# Altium schematic symbol library RcMPPTLib.SchLib: 62 symbols
Pins are listed as number, name and electrical type; pins without a type are passive.

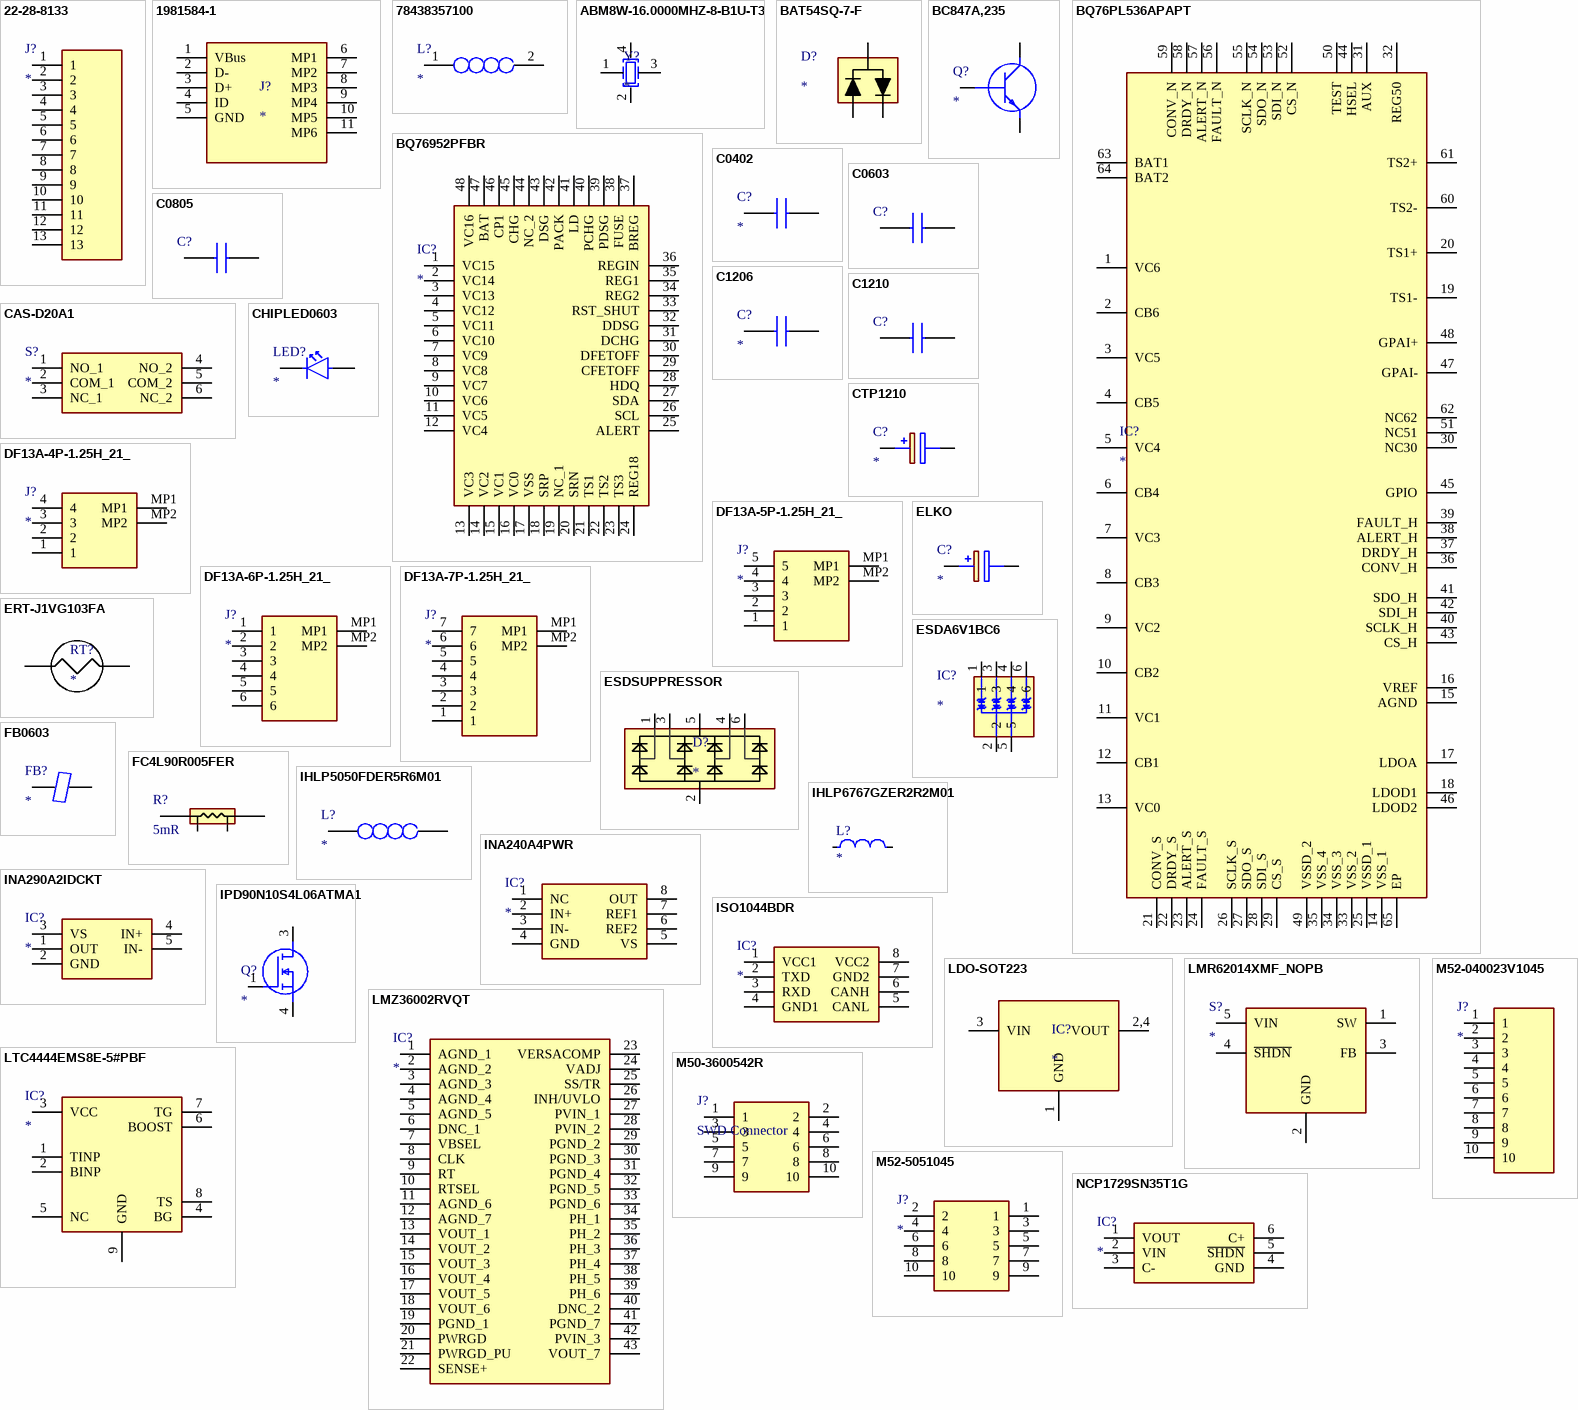
[diagram p0: symbols 22-28-8133 to NCP1729SN35T1G]

## 22-28-8133
designator J?
Connector; Manufacturer_Name: Molex; Datasheet Link: https://www.molex.com/pdm_docs/sd/022288133_sd.pdf; Height: 2.49mm; Manufacturer_Part_Number: 22-28-8133; Mouser Part Number: 538-22-28-8133; Mouser Price/Stock: https://www.mouser.co.uk/ProductDetail/Molex/22-28-8133?qs=l%252BWx29wYPrwPQBTZUVDqKw%3D%3D
footprint HDRRA13W66P0X254_1X13_3302X229X249P
pins: 1, 2, 3, 4, 5, 6, 7, 8, 9, 10, 11, 12, 13

## 1981584-1
designator J?
Connector; Manufacturer_Name: TE Connectivity; Manufacturer_Part_Number: 1981584-1; Datasheet Link: http://www.te.com/commerce/DocumentDelivery/DDEController?Action=showdoc&DocId=Customer+Drawing%7F1981584%7FD2%7Fpdf%7FEnglish%7FENG_CD_1981584_D2.pdf%7F1981584-1; Height: 3mm; Arrow Part Number: 1981584-1; Arrow Price/Stock: https://www.arrow.com/en/products/1981584-1/te-connectivity; Mouser Part Number: 571-1981584-1; Mouser Price/Stock: https://www.mouser.co.uk/ProductDetail/TE-Connectivity/1981584-1?qs=ozkTL%2FUej0TLYxjQLPnd2Q%3D%3D
footprint 19815841
pins: 1 VBus, 2 D-, 3 D+, 4 ID, 5 GND, 6 MP1, 7 MP2, 8 MP3, 9 MP4, 10 MP5, 11 MP6

## 78438357100
designator L?
Inductor; Manufacturer_Name: Wurth Elektronik; Manufacturer_Part_Number: 78438357100; Datasheet Link: https://katalog.we-online.de/pbs/datasheet/78438357100.pdf; Height: 3.1mm; Mouser Part Number: 710-78438357100; Mouser Price/Stock: https://www.mouser.co.uk/ProductDetail/Wurth-Elektronik/78438357100?qs=f9yNj16SXrI9saR5LXmRyQ%3D%3D
footprint INDPM4141X310N
pins: 1, 2

## ABM8W-16.0000MHZ-8-B1U-T3
designator Y?
Crystal or Oscillator; Manufacturer_Name: ABRACON; Manufacturer_Part_Number: ABM8W-16.0000MHZ-8-B1U-T3; Datasheet Link: https://abracon.com/Resonators/ABM8W.pdf; Height: 0.75mm; Mouser Part Number: 815-8W16-8B1UT; Mouser Price/Stock: https://www.mouser.co.uk/ProductDetail/ABRACON/ABM8W-160000MHZ-8-B1U-T3?qs=5aG0NVq1C4zuwTHNFUIcqw%3D%3D; Arrow Part Number: ABM8W-16.0000MHZ-8-B1U-T3; Arrow Price/Stock: https://www.arrow.com/en/products/abm8w-16.0000mhz-8-b1u-t3/abracon
footprint ABM8W160000MHZ8B1UT3
pins: 1 OSC1, 2 OSC2, 3, 4

## BAT54SQ-7-F
designator D?
Schottky Diode; Manufacturer_Name: Diodes Inc.; Manufacturer_Part_Number: BAT54SQ-7-F; Datasheet Link: https://www.arrow.com/en/products/bat54sq-7-f/diodes-incorporated; Height: 1.1mm; Mouser Part Number: 621-BAT54SQ-7-F; Mouser Price/Stock: https://www.mouser.co.uk/ProductDetail/Diodes-Incorporated/BAT54SQ-7-F/?qs=vdQOMtKMWaAKaYcjx11stw%3D%3D; Arrow Part Number: BAT54SQ-7-F; Arrow Price/Stock: https://www.arrow.com/en/products/bat54sq-7-f/diodes-incorporated
footprint SOT96P240X110-3N
pins: 1 A, 2 K, 3 A/K

## BC847A,235
designator Q?
Transistor BJT NPN; Manufacturer_Name: Nexperia; Manufacturer_Part_Number: BC847A,235; Datasheet Link: http://assets.nexperia.com/documents/data-sheet/BC847_SER.pdf; Height: 1.1mm; Mouser Part Number: 771-BC847A235; Mouser Price/Stock: https://www.mouser.co.uk/ProductDetail/Nexperia/BC847A235?qs=me8TqzrmIYWeD%252BqPzufrRA%3D%3D; Arrow Part Number: BC847A,235; Arrow Price/Stock: https://www.arrow.com/en/products/bc847a235/nexperia
footprint SOT95P230X110-3N
pins: 1 B, 2 E, 3 C

## BQ76PL536APAPT
designator IC?
Integrated Circuit; Manufacturer_Name: Texas Instruments; Manufacturer_Part_Number: BQ76PL536APAPT; Datasheet Link: http://www.ti.com/lit/gpn/bq76pl536a; Height: 1.2mm; Mouser Part Number: 595-BQ76PL536APAPT; Mouser Price/Stock: https://www.mouser.co.uk/ProductDetail/Texas-Instruments/BQ76PL536APAPT?qs=UlfnwZ2x8nT1EXA%252BD%252BEfIQ%3D%3D; Arrow Part Number: BQ76PL536APAPT; Arrow Price/Stock: https://www.arrow.com/en/products/bq76pl536apapt/texas-instruments?region=nac
footprint QFP50P1200X1200X120-65N
pins: 1 VC6, 2 CB6, 3 VC5, 4 CB5, 5 VC4, 6 CB4, 7 VC3, 8 CB3, 9 VC2, 10 CB2, 11 VC1, 12 CB1, 13 VC0, 14 VSS_1, 15 AGND, 16 VREF, 17 LDOA, 18 LDOD1, 19 TS1-, 20 TS1+, 21 CONV_S, 22 DRDY_S, 23 ALERT_S, 24 FAULT_S, 25 VSSD_1, 26 SCLK_S, 27 SDO_S, 28 SDI_S, 29 CS_S, 30 NC30, 31 AUX, 32 REG50, 33 VSS_2, 34 VSS_3, 35 VSS_4, 36 CONV_H, 37 DRDY_H, 38 ALERT_H, 39 FAULT_H, 40 SCLK_H, 41 SDO_H, 42 SDI_H, 43 CS_H, 44 HSEL, 45 GPIO, 46 LDOD2, 47 GPAI-, 48 GPAI+, 49 VSSD_2, 50 TEST, 51 NC51, 52 CS_N, 53 SDI_N, 54 SDO_N, 55 SCLK_N, 56 FAULT_N, 57 ALERT_N, 58 DRDY_N, 59 CONV_N, 60 TS2-, 61 TS2+, 62 NC62, 63 BAT1, 64 BAT2, 65 EP

## BQ76952PFBR
designator IC?
Integrated Circuit; Manufacturer_Name: Texas Instruments; Manufacturer_Part_Number: BQ76952PFBR; Datasheet Link: https://www.ti.com/lit/ds/symlink/bq76952.pdf?ts=1602524050348&ref_url=https%253A%252F%252Fwww.ti.com%252Fproduct%252FBQ76952%253FkeyMatch%253DBQ76952PFBR%2526tisearch%253DSearch-EN-everything%2526usecase%253DOPN; Height: 1.2mm
footprint QFP50P900X900X120-48N
pins: 1 VC15, 2 VC14, 3 VC13, 4 VC12, 5 VC11, 6 VC10, 7 VC9, 8 VC8, 9 VC7, 10 VC6, 11 VC5, 12 VC4, 13 VC3, 14 VC2, 15 VC1, 16 VC0, 17 VSS, 18 SRP, 19 NC_1, 20 SRN, 21 TS1, 22 TS2, 23 TS3, 24 REG18, 25 ALERT, 26 SCL, 27 SDA, 28 HDQ, 29 CFETOFF, 30 DFETOFF, 31 DCHG, 32 DDSG, 33 RST_SHUT, 34 REG2, 35 REG1, 36 REGIN, 37 BREG, 38 FUSE, 39 PDSG, 40 PCHG, 41 LD, 42 PACK, 43 DSG, 44 NC_2, 45 CHG, 46 CP1, 47 BAT, 48 VC16

## C0402
designator C?
Capacitor
footprint CAPC1005X55N
pins: 1, 2

## C0603
designator C?  (value not drawn)
Capacitor; Height: 0.97
footprint CAPC1608X97N
pins: 1, 2

## C0805
designator C?  (value not drawn)
Capacitor; Height: 0.97
footprint CAPC2012X75N
pins: 1, 2

## C1206
designator C?
Capacitor; Height: 1.8mm
footprint CAPC3216X180N (Footprint not found)
pins: 1, 2

## C1210
designator C?  (value not drawn)
Capacitor; Height: 0.97mm
footprint CAPC3225X270N
pins: 1, 2

## CAS-D20A1
designator S?
Switch; Manufacturer_Name: Copal Electronics; Manufacturer_Part_Number: CAS-D20A1; Datasheet Link: https://www.nidec-copal-electronics.com/e/catalog/switch/cas.pdf; Height: 2.5mm
footprint CASD20A1
pins: 1 NO_1, 2 COM_1, 3 NC_1, 4 NO_2, 5 COM_2, 6 NC_2

## CHIPLED0603
designator LED?
LED; Mouser Price/Stock: https://www.mouser.at/c/optoelectronics/led-lighting/led-emitters/standard-leds-smd/?series=CHIPLED%200603&instock=y
footprint CHIPLED_0603
pins: 1 K, 2 A

## CTP1210
designator C?
Capacitor Polarised
footprint POSCAP_B1_B1S_B1G_B15G_B2_B2S
pins: 1 +, 2 -

## DF13A-4P-1.25H_21_
designator J?
Connector; Manufacturer_Name: Hirose; Manufacturer_Part_Number: DF13A-4P-1.25H(21); Datasheet Link: https://componentsearchengine.com/Datasheets/1/DF13A-4P-1.25H(21).pdf; Height: 3.6mm; Mouser Part Number: 798-DF13A4P125H21; Mouser Price/Stock: https://www.mouser.co.uk/ProductDetail/Hirose-Connector/DF13A-4P-125H21?qs=XQjbzJWzFPXWzMShI70F0w%3D%3D
footprint DF13A4P125H21
pins: 1, 2, 3, 4, MP1, MP2

## DF13A-5P-1.25H_21_
designator J?
Connector; Manufacturer_Name: Hirose; Manufacturer_Part_Number: DF13A-5P-1.25H(21); Datasheet Link: https://componentsearchengine.com/Datasheets/1/DF13A-5P-1.25H(21).pdf; Height: 3.75mm; Mouser Part Number: 798-DF13A5P125H21; Mouser Price/Stock: https://www.mouser.co.uk/ProductDetail/Hirose-Connector/DF13A-5P-125H21?qs=XQjbzJWzFPWvJsE2o%252B4Q8Q%3D%3D
footprint DF13A5P125H21
pins: 1, 2, 3, 4, 5, MP1, MP2

## DF13A-6P-1.25H_21_
designator J?
Connector; Manufacturer_Name: Hirose; Manufacturer_Part_Number: DF13A-6P-1.25H(21); Datasheet Link: https://www.hirose.com/product/download/?distributor=digikey&type=2d&lang=en&num=DF13A-6P-1.25H(21); Height: 3.75mm; Mouser Part Number: 798-DF13A6P125H21; Mouser Price/Stock: https://www.mouser.co.uk/ProductDetail/Hirose-Connector/DF13A-6P-125H21?qs=XQjbzJWzFPXnreVi%252BPl0Lg%3D%3D; Arrow Part Number: DF13A-6P-1.25H(21); Arrow Price/Stock: https://www.arrow.com/en/products/df13a-6p-1.25h-21/hirose-electric
footprint DF13A6P125H21
pins: 1, 2, 3, 4, 5, 6, MP1, MP2

## DF13A-7P-1.25H_21_
designator J?
Connector; Manufacturer_Name: Hirose; Manufacturer_Part_Number: DF13A-7P-1.25H(21); Datasheet Link: https://www.hirose.com/product/download/?distributor=digikey&type=specSheet&lang=en&num=DF13A-7P-1.25H(21); Height: 3.75mm; Mouser Part Number: 798-DF13A7P125H21; Mouser Price/Stock: https://www.mouser.co.uk/ProductDetail/Hirose-Connector/DF13A-7P-125H21?qs=XQjbzJWzFPUwUyBUPiS%2FgA%3D%3D
footprint DF13A7P125H21
pins: 1, 2, 3, 4, 5, 6, 7, MP1, MP2

## ELKO
designator C?
Capacitor Polarised
footprint CAPAE1710X1750N
footprint CAPAE1030X1050N
pins: 1 +, 2 -

## ERT-J1VG103FA
designator RT?
Thermistor; Manufacturer_Name: Panasonic; Manufacturer_Part_Number: ERT-J1VG103FA; Datasheet Link: https://componentsearchengine.com/Datasheets/1/ERT-J1VG103FA.pdf; Height: 0.9mm; Mouser Part Number: 667-ERT-J1VG103FA; Mouser Price/Stock: https://www.mouser.co.uk/ProductDetail/Panasonic/ERT-J1VG103FA?qs=Tap6ps20mlMpYFuAQ7bHkg%3D%3D; Arrow Part Number: ERT-J1VG103FA; Arrow Price/Stock: https://www.arrow.com/en/products/ert-j1vg103fa/panasonic
footprint THRMC1608X90N
pins: 1, 2

## ESDA6V1BC6
designator IC?
Integrated Circuit; Manufacturer_Name: STMicroelectronics; Manufacturer_Part_Number: ESDA6V1BC6; Datasheet Link: https://datasheet.datasheetarchive.com/originals/distributors/Datasheets-31/DSA-600768.pdf; Height: 1.45mm; Mouser Part Number: 511-ESDA6V1BC6; Mouser Price/Stock: https://www.mouser.co.uk/ProductDetail/STMicroelectronics/ESDA6V1BC6?qs=9PdvrqCL7oAFp2zmpu55Tw%3D%3D; Arrow Part Number: ESDA6V1BC6; Arrow Price/Stock: https://www.arrow.com/en/products/esda6v1bc6/stmicroelectronics?region=nac
footprint SOT95P280X145-6N
pins: 1, 2, 3, 4, 5, 6

## ESDSUPPRESSOR
designator D?
TVS Diode Array; Height: 0.6mm
footprint SOT23-6 (Footprint not found)
pins: 1 CH1, 2 GND, 3 CH2, 4 CH3, 5 VDD, 6 CH4

## FB0603
designator FB?
Ferrite Bead; Height: 0.75mm
footprint FB0603
pins: 1, 2

## FC4L90R005FER
designator R?, comment 5mR
Shunt; Manufacturer_Name: Ohmite; Manufacturer_Part_Number: FC4L90R005FER; Datasheet Link: https://componentsearchengine.com/Datasheets/2/FC4L90R005FER.pdf; Height: 0.8mm; Mouser Part Number: 588-FC4L90R005FER; Mouser Price/Stock: https://www.mouser.co.uk/ProductDetail/Ohmite/FC4L90R005FER?qs=lc2O%252BfHJPVbbUOwenJZbzA%3D%3D
footprint FC4L90R005FER
pins: 1, 2, 3, 4

## IHLP5050FDER5R6M01
designator L?
Inductor; Manufacturer_Name: Vishay; Manufacturer_Part_Number: IHLP5050FDER5R6M01; Datasheet Link: https://datasheet.datasheetarchive.com/originals/dk/DKDS-37/730336.pdf; Height: 6.5mm; Mouser Part Number: 70-IHLP5050FDER5R6; Mouser Price/Stock: https://www.mouser.co.uk/ProductDetail/Vishay-Dale/IHLP5050FDER5R6M01?qs=DQ1bOpn7xPDvqDl65iF1FA%3D%3D; Arrow Part Number: IHLP5050FDER5R6M01; Arrow Price/Stock: https://www.arrow.com/en/products/ihlp5050fder5r6m01/vishay
footprint INDPM132129X650N
pins: 1, 2

## IHLP6767GZER2R2M01
designator L?
Commercial Inductors, High Saturation Series 2.2uH 35A 2.53mΩ 20%; Manufacturer: Vishay Dale; Manufacturer Part Number: IHLP6767GZER2R2M01; Max DC Current: 62A; Shielding: Shielded; Self Resonant Frequency: 2MHz; DC Resistance (DCR): 2.53mR; Core Material: Metal; Test Frequency: 100kHz; Tolerance: 20%; Termination: SMD/SMT; RMS Current (Irms): 35A; Depth: 17.15mm; Package Quantity: 200; Mount: Surface Mount; Case/Package: 6767; Saturation Current: 62A; Radiation Hardening: No; Height - Seated (Max): 0.276inch; Lead Free: Lead Free; Max Operating Temperature: 125°C; Inductance Tolerance: 20%; Packaging: Tape and Reel; Number of Pins: 6767; Current Rating: 35A; Military Standard: Not; Min Operating Temperature: -55°C; Inductance: 2.2uH; Width: 0.675inch; Height: 7mm; Length: 17.15mm
footprint FP-IHLP-6767GZ-FP_3_825x1-MFG
pins: 1, 2

## INA240A4PWR
designator IC?
Integrated Circuit; Manufacturer_Name: Texas Instruments; Manufacturer_Part_Number: INA240A4PWR; Datasheet Link: http://www.ti.com/lit/ds/symlink/ina240.pdf; Height: 1.2mm; Mouser Part Number: 595-INA240A4PWR; Mouser Price/Stock: https://www.mouser.co.uk/ProductDetail/Texas-Instruments/INA240A4PWR?qs=aVyJF2WnouQ31PAZ9p0r8w%3D%3D; Arrow Part Number: INA240A4PWR; Arrow Price/Stock: https://www.arrow.com/en/products/ina240a4pwr/texas-instruments?region=nac
footprint SOP65P640X120-8N
pins: 1 NC, 2 IN+, 3 IN-, 4 GND (power), 5 VS (power), 6 REF2, 7 REF1, 8 OUT

## INA290A2IDCKT
designator IC?
Integrated Circuit; Manufacturer_Name: Texas Instruments; Manufacturer_Part_Number: INA290A2IDCKT; Datasheet Link: https://www.ti.com/lit/ds/symlink/ina290.pdf?ts=1605766072094&ref_url=https%253A%252F%252Fwww.ti.com%252Fstore%252Fti%252Fen%252Fp%252Fproduct%252F%253Fp%253DINA290A2IDCKT; Height: 1.1mm; Mouser Part Number: 595-INA290A2IDCKT; Mouser Price/Stock: https://www.mouser.co.uk/ProductDetail/Texas-Instruments/INA290A2IDCKT/?qs=sPbYRqrBIVkkx%2FoqcXF%2FVw%3D%3D
footprint SOT65P210X110-5N
pins: 1 OUT, 2 GND, 3 VS, 4 IN+, 5 IN-

## IPD90N10S4L06ATMA1
designator Q?
MOSFET (N-Channel); Manufacturer_Name: Infineon; Manufacturer_Part_Number: IPD90N10S4L06ATMA1; Datasheet Link: https://www.infineon.com/dgdl/Infineon-IPD90N10S4L_06-DS-v01_00-en.pdf?fileId=db3a3043372d5cc80137500063630512; Height: 2mm; Arrow Part Number: IPD90N10S4L06ATMA1; Arrow Price/Stock: https://www.arrow.com/en/products/ipd90n10s4l06atma1/infineon-technologies-ag; Mouser Part Number: 726-IPD90N10S4L06ATM; Mouser Price/Stock: https://www.mouser.co.uk/ProductDetail/Infineon-Technologies/IPD90N10S4L06ATMA1?qs=LxJ0xX%2FWJR62lwU%2FrihEDA%3D%3D
footprint IPD90N10S4L06ATMA1
pins: 1 G, 3 D, 4 S

## ISO1044BDR
designator IC?
Integrated Circuit; Manufacturer_Name: Texas Instruments; Manufacturer_Part_Number: ISO1044BDR; Datasheet Link: http://www.ti.com/lit/gpn/iso1044?HQS=ti-null-null-sf-df-pf-sep-wwe&DCM=yes; Height: 1.75mm; Mouser Part Number: 595-ISO1044BDR; Mouser Price/Stock: https://www.mouser.co.uk/ProductDetail/Texas-Instruments/ISO1044BDR/?qs=DuoOggApuK9UGD9QQWYeTA%3D%3D
footprint SOIC127P600X175-8N
pins: 1 VCC1, 2 TXD, 3 RXD, 4 GND1, 5 CANL, 6 CANH, 7 GND2, 8 VCC2

## LDO-SOT223
designator IC?
LDO
footprint SOT230P700X180-4N
pins: 1 GND, 2,4 VOUT, 3 VIN

## LMR62014XMF_NOPB
designator S?
Switch; Manufacturer_Name: Texas Instruments; Manufacturer_Part_Number: LMR62014XMF/NOPB; Datasheet Link: http://www.ti.com/lit/gpn/lmr62014; Height: 1.45mm; Mouser Part Number: 926-LMR62014XMF/NOPB; Mouser Price/Stock: https://www.mouser.co.uk/ProductDetail/Texas-Instruments/LMR62014XMF-NOPB?qs=cN01o9PeIQtA177Vn0GXdQ%3D%3D; Arrow Part Number: LMR62014XMF/NOPB; Arrow Price/Stock: https://www.arrow.com/en/products/lmr62014xmfnopb/texas-instruments
footprint SOT95P280X145-5N
pins: 1 SW, 2 GND, 3 FB, 4 ~{SHDN}, 5 VIN

## LMZ36002RVQT
designator IC?
Integrated Circuit; Manufacturer_Name: Texas Instruments; Manufacturer_Part_Number: LMZ36002RVQT; Datasheet Link: http://www.ti.com/lit/gpn/lmz36002; Height: 2.13mm; Mouser Part Number: 595-LMZ36002RVQT; Mouser Price/Stock: https://www.mouser.co.uk/ProductDetail/Texas-Instruments/LMZ36002RVQT?qs=kFLL9AfgRSBjXTxBMSjGOw%3D%3D; Arrow Part Number: LMZ36002RVQT; Arrow Price/Stock: https://www.arrow.com/en/products/lmz36002rvqt/texas-instruments
footprint LMZ36002RVQR
pins: 1 AGND_1, 2 AGND_2, 3 AGND_3, 4 AGND_4, 5 AGND_5, 6 DNC_1, 7 VBSEL, 8 CLK, 9 RT, 10 RTSEL, 11 AGND_6, 12 AGND_7, 13 VOUT_1, 14 VOUT_2, 15 VOUT_3, 16 VOUT_4, 17 VOUT_5, 18 VOUT_6, 19 PGND_1, 20 PWRGD, 21 PWRGD_PU, 22 SENSE+, 23 VERSACOMP, 24 VADJ, 25 SS/TR, 26 INH/UVLO, 27 PVIN_1, 28 PVIN_2, 29 PGND_2, 30 PGND_3, 31 PGND_4, 32 PGND_5, 33 PGND_6, 34 PH_1, 35 PH_2, 36 PH_3, 37 PH_4, 38 PH_5, 39 PH_6, 40 DNC_2, 41 PGND_7, 42 PVIN_3, 43 VOUT_7

## LTC4444EMS8E-5#PBF
designator IC?
Integrated Circuit; Manufacturer_Name: Linear Technology; Manufacturer_Part_Number: LTC4444EMS8E-5#PBF; Datasheet Link: http://www.linear.com/docs/26366; Height: 1.1mm; Arrow Part Number: LTC4444EMS8E-5#PBF; Arrow Price/Stock: https://www.arrow.com/en/products/ltc4444ems8e-5pbf/linear-technology; Mouser Part Number: 584-C4444EMS8E-5PBF; Mouser Price/Stock: https://www.mouser.com/Search/Refine.aspx?Keyword=584-C4444EMS8E-5PBF
footprint SOP65P490X110-9N
pins: 1 TINP, 2 BINP, 3 VCC, 4 BG, 5 NC, 6 BOOST, 7 TG, 8 TS, 9 GND

## M50-3600542R
designator J?, comment SWD Connector
Connector; Manufacturer_Name: Harwin; Manufacturer_Part_Number: M50-3600542R; Datasheet Link: https://cdn.harwin.com/pdfs/M50-360R.pdf; Mouser Part Number: 855-M50-3600542R; Mouser Price/Stock: https://www.mouser.co.uk/ProductDetail/Harwin/M50-3600542R?qs=DVxm2sPGGrrPu%2FxuhpV3yw%3D%3D
footprint HUSSP10W40P127_2X5_635X340X420P
pins: 1, 2, 3, 4, 5, 6, 7, 8, 9, 10

## M52-040023V1045
designator J?
Connector; Manufacturer_Name: Harwin; Manufacturer_Part_Number: M52-040023V1045; Datasheet Link: https://componentsearchengine.com/Datasheets/2/M52-040023V1045.pdf; Height: 2.5mm; Mouser Part Number: 855-M52-040023V1045; Mouser Price/Stock: https://www.mouser.co.uk/ProductDetail/Harwin/M52-040023V1045?qs=wuXwK9wHm9uI6z1%2FRhsKmg%3D%3D
footprint HDRV10W60P0X127_1X10_1270X250X250P
pins: 1, 2, 3, 4, 5, 6, 7, 8, 9, 10

## M52-5051045
designator J?
Connector; Manufacturer_Name: Harwin; Manufacturer_Part_Number: M52-5051045; Datasheet Link: https://cdn.harwin.com/pdfs/M52-505.pdf; Height: 5.7mm; Mouser Part Number: 855-M52-5051045; Mouser Price/Stock: https://www.mouser.co.uk/ProductDetail/Harwin/M52-5051045?qs=Jph8NoUxIfVdgQJihAwiug%3D%3D
footprint M525051045
pins: 1, 2, 3, 4, 5, 6, 7, 8, 9, 10

## NCP1729SN35T1G
designator IC?
Integrated Circuit; Manufacturer_Name: ON Semiconductor; Manufacturer_Part_Number: NCP1729SN35T1G; Datasheet Link: http://www.onsemi.com/pub/Collateral/NCP1729-D.PDF; Height: 1.1mm; Arrow Part Number: NCP1729SN35T1G; Arrow Price/Stock: https://www.arrow.com/en/products/ncp1729sn35t1g/on-semiconductor; Mouser Part Number: 863-NCP1729SN35T1G; Mouser Price/Stock: https://www.mouser.co.uk/ProductDetail/ON-Semiconductor/NCP1729SN35T1G?qs=%2FugrpAKHX8pjfXPiRUErOw%3D%3D
footprint SOT105P275X110-6N
pins: 1 VOUT, 2 VIN, 3 C-, 4 GND, 5 ~{SHDN}, 6 C+

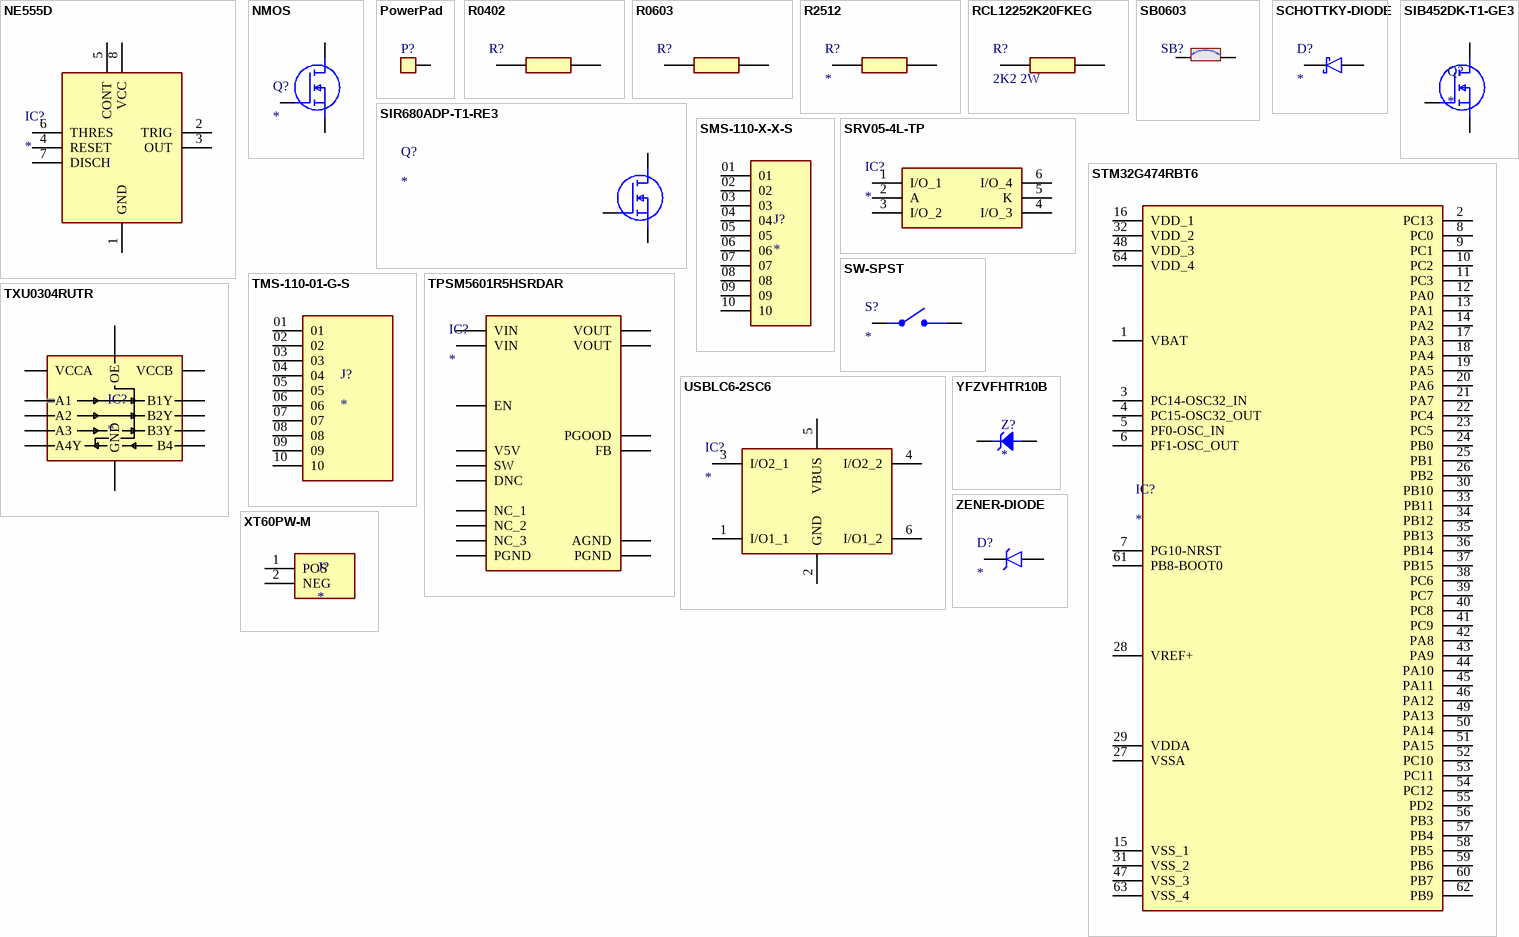
[diagram p1: symbols NE555D to ZENER-DIODE]

## NE555D
designator IC?
Integrated Circuit; Manufacturer_Name: Texas Instruments; Manufacturer_Part_Number: NE555D; Datasheet Link: http://www.ti.com/lit/ds/symlink/ne555.pdf; Height: 1.75mm; Mouser Part Number: 595-NE555D; Mouser Price/Stock: https://www.mouser.co.uk/ProductDetail/Texas-Instruments/NE555D/?qs=gb35HGp1gQIV8t3Z88o0WA%3D%3D; Arrow Part Number: NE555D; Arrow Price/Stock: https://www.arrow.com/en/products/ne555d/texas-instruments
footprint SOIC127P600X175-8N
pins: 1 GND, 2 TRIG, 3 OUT, 4 RESET, 5 CONT, 6 THRES, 7 DISCH, 8 VCC

## NMOS
designator Q?
MOSFET (N-Channel)
footprint SI2305TP
footprint SOT96P240X110-3N
pins: 1 G, 2 S, 3 D

## PowerPad
designator P?  (value not drawn)
footprint POWER_PAD
pins: 1

## R0402
designator R?  (value not drawn)
Resistor; Height: 0.4mm
footprint RESC1005X40N
pins: 1, 2

## R0603
designator R?  (value not drawn)
Resistor; Height: 0.55mm
footprint RESC1608X50N
pins: 1, 2

## R2512
designator R?
Resistor; Height: 0.75mm
footprint RESC6331X75N
pins: 1, 2

## RCL12252K20FKEG
designator R?, comment 2K2 2W
Resistor; Manufacturer_Name: Vishay; Manufacturer_Part_Number: RCL12252K20FKEG; Datasheet Link: https://www.vishay.com/doc?20046; Height: 0.8mm; Mouser Part Number: 71-RCL12252K20FKEG; Mouser Price/Stock: https://www.mouser.at/ProductDetail/Vishay-Draloric/RCL12252K20FKEG?qs=y9TUMy5yfKDxmTP8Gtmp9w%3D%3D
footprint RESC3263X80N
pins: 1, 2

## SB0603
designator SB?
Solder Bridge; Internal_Part_Number: MCD-00071; Part_Type: Mechanical; Manufacturer_Part_Number: RC0603JR-070RL; Manufacturer: YAGEO; Provided_By: SUBCO; ECCN_US: n/a; ECCN_EU: n/a; Status: Released; Package: SB0603; ComponentLink1Description: Datasheet; ComponentLink1URL: http://tunmcdsvn.tun.st.com/Component_Datasheet_Library/Trunk/Resistors/Yageo_Resistor_RC0603-series
footprint SOLDER-BRIDGE_R0603-0R
pins: 1, 2

## SCHOTTKY-DIODE
designator D?
Schottky Diode
footprint SOD-323
footprint SOD-123FL
pins: 1 K, 2 A

## SIB452DK-T1-GE3
designator Q?
MOSFET (N-Channel); Manufacturer_Name: Vishay; Manufacturer_Part_Number: SIB452DK-T1-GE3; Datasheet Link: https://datasheet.datasheetarchive.com/originals/dk/DKDS-23/454616.pdf; Height: 0.8mm; Mouser Part Number: 781-SIB452DK-T1-GE3; Mouser Price/Stock: https://www.mouser.co.uk/ProductDetail/Vishay-Semiconductors/SIB452DK-T1-GE3?qs=IRuQNBqMOckO5FjOMoW3mQ%3D%3D
footprint SIB452DKT1GE3; pin to pad 1,2,5,6,8>1+2+5+6+8 4,7>4+7
pins: 1,2,5,6,8 D, 3 G, 4,7 S

## SIR680ADP-T1-RE3
designator Q?
MOSFET (N-Channel); Manufacturer_Name: Vishay; Manufacturer_Part_Number: SIR680ADP-T1-RE3; Datasheet Link: https://componentsearchengine.com/Datasheets/2/SIR680ADP-T1-RE3.pdf; Height: 1.12mm; Mouser Part Number: 78-SIR680ADP-T1-RE3; Mouser Price/Stock: https://www.mouser.co.uk/ProductDetail/Vishay-Semiconductors/SIR680ADP-T1-RE3?qs=Cb2nCFKsA8raqFl13vB9OA%3D%3D
footprint SI7141DPT1GE3; pin to pad 1,2,3>1+2+3 1, 2, 3>1+2+3 5,6,7,8,9,10,11>5+6+7+8+9+10+11
pins: 1, 2, 3 S, 4 G, 5,6,7,8,9,10,11 D

## SMS-110-X-X-S
designator J?
10 Position Receptacle Connector 0.050" (1.27mm) Through Hole Gold; MP: SMS-110-X-X-S; MF: {'manufacturer': u'Samtec'}; Package: None; Availability: Unavailable; Value: *; Price: None
footprint SAMTEC_SMS-110-X-X-S
pins: 01, 02, 03, 04, 05, 06, 07, 08, 09, 10

## SRV05-4L-TP
designator IC?
Integrated Circuit; Manufacturer_Name: Micro Commercial Components (MCC); Manufacturer_Part_Number: SRV05-4L-TP; Datasheet Link: https://datasheet.datasheetarchive.com/originals/distributors/Datasheets_SAMA/40a799c7d89310c079c817713790dc8d.pdf; Height: 1.45mm; Mouser Part Number: 833-SRV05-4L-TP; Mouser Price/Stock: https://www.mouser.co.uk/ProductDetail/Micro-Commercial-Components-MCC/SRV05-4L-TP?qs=SdqRYZZ9IxD6En634ibvWA%3D%3D; Arrow Part Number: SRV05-4L-TP; Arrow Price/Stock: https://www.arrow.com/en/products/srv05-4l-tp/micro-commercial-components?region=nac
footprint SOT95P270X145-6N
pins: 1 I/O_1, 2 A, 3 I/O_2, 4 I/O_3, 5 K, 6 I/O_4

## STM32G474RBT6
designator IC?
Integrated Circuit; Manufacturer_Name: STMicroelectronics; Manufacturer_Part_Number: STM32G474RBT6; Datasheet Link: https://www.mouser.com/datasheet/2/389/stm32g474cb-1600828.pdf; Height: 1.6mm; Mouser Part Number: 511-STM32G474RBT6; Mouser Price/Stock: https://www.mouser.co.uk/ProductDetail/STMicroelectronics/STM32G474RBT6?qs=uwxL4vQweFP0uAZUZXLBhQ%3D%3D
footprint QFP50P1200X1200X160-64N
pins: 1 VBAT, 2 PC13, 3 PC14-OSC32_IN, 4 PC15-OSC32_OUT, 5 PF0-OSC_IN, 6 PF1-OSC_OUT, 7 PG10-NRST, 8 PC0, 9 PC1, 10 PC2, 11 PC3, 12 PA0, 13 PA1, 14 PA2, 15 VSS_1, 16 VDD_1, 17 PA3, 18 PA4, 19 PA5, 20 PA6, 21 PA7, 22 PC4, 23 PC5, 24 PB0, 25 PB1, 26 PB2, 27 VSSA, 28 VREF+, 29 VDDA, 30 PB10, 31 VSS_2, 32 VDD_2, 33 PB11, 34 PB12, 35 PB13, 36 PB14, 37 PB15, 38 PC6, 39 PC7, 40 PC8, 41 PC9, 42 PA8, 43 PA9, 44 PA10, 45 PA11, 46 PA12, 47 VSS_3, 48 VDD_3, 49 PA13, 50 PA14, 51 PA15, 52 PC10, 53 PC11, 54 PC12, 55 PD2, 56 PB3, 57 PB4, 58 PB5, 59 PB6, 60 PB7, 61 PB8-BOOT0, 62 PB9, 63 VSS_4, 64 VDD_4

## SW-SPST
designator S?
Switch
footprint 434153017835
pins: 1,3 NO, 2,4 COM

## TMS-110-01-G-S
designator J?
MP: TMS-110-01-G-S; MF: {'manufacturer': u'Samtec'}; Package: None; Availability: Unavailable; Value: *; Price: None
footprint SAMTEC_TMS-110-01-G-S
pins: 01, 02, 03, 04, 05, 06, 07, 08, 09, 10

## TPSM5601R5HSRDAR
designator IC?
Integrated Circuit; Manufacturer_Name: Texas Instruments; Manufacturer_Part_Number: TPSM5601R5HSRDAR; Datasheet Link: https://www.ti.com/lit/ds/symlink/tpsm5601r5h.pdf?ts=1622688238120&ref_url=https%253A%252F%252Fcomponentsearchengine.com%252F; Height: 4.1mm; Mouser Part Number: 595-TPSM5601R5HSRDAR; Mouser Price/Stock: https://www.mouser.co.uk/ProductDetail/Texas-Instruments/TPSM5601R5HSRDAR?qs=DRkmTr78QARQPwPAx4O%252BKQ%3D%3D; Arrow Part Number: TPSM5601R5HSRDAR; Arrow Price/Stock: https://www.arrow.com/en/products/tpsm5601r5hsrdar/texas-instruments?region=nac
footprint TPSM5601R5HSRDAR; pin to pad 15, 16>15+16
pins: 1 VIN, 2 EN, 3 NC_1, 4 SW, 5 DNC, 6 NC_2, 7 VOUT, 8 VOUT, 9 FB, 10 AGND, 11 V5V, 12 PGOOD, 13 NC_3, 14 VIN, 15, 16 PGND, 17 PGND

## TXU0304RUTR
designator IC?
Integrated Circuit; Manufacturer_Name: Texas Instruments; Manufacturer_Part_Number: TXU0304RUTR; Datasheet Link: https://www.ti.com/lit/ds/symlink/txu0304.pdf?ts=1639746896730&ref_url=https%253A%252F%252Fwww.ti.com%252Fproduct%252FTXU0304; Mouser Part Number: 595-TXU0304RUTR; Mouser Price/Stock: https://www.mouser.at/ProductDetail/Texas-Instruments/TXU0304RUTR?qs=pBJMDPsKWf1XxvxZVB4EQA%3D%3D
footprint UQFN-12
pins: 1, 13 VCCA, 2 A1, 3 A2, 4 A3, 5 A4Y, 6 GND, 7 B4, 8 B3Y, 9 B2Y, 10 B1Y, 11 VCCB, 12 OE

## USBLC6-2SC6
designator IC?
Integrated Circuit; Manufacturer_Name: STMicroelectronics; Manufacturer_Part_Number: USBLC6-2SC6; Datasheet Link: http://www.st.com/st-web-ui/static/active/en/resource/technical/document/datasheet/CD00050750.pdf; Height: 1.45mm; Arrow Part Number: USBLC6-2SC6; Arrow Price/Stock: https://www.arrow.com/en/products/usblc6-2sc6/stmicroelectronics; Mouser Part Number: 511-USBLC6-2SC6; Mouser Price/Stock: https://www.mouser.co.uk/ProductDetail/STMicroelectronics/USBLC6-2SC6?qs=po45yt2pPpu%2FhNIlwQdTlg%3D%3D
footprint SOT95P280X145-6N
pins: 1 I/O1_1, 2 GND, 3 I/O2_1, 4 I/O2_2, 5 VBUS, 6 I/O1_2

## XT60PW-M
designator J?
MP: XT60PW-M; MF: {'manufacturer': u'AMASS'}; Package: None; Availability: Unavailable; Value: *; Price: None
footprint AMASS_XT60PW-M
pins: 1 POS, 2 NEG

## YFZVFHTR10B
designator Z?
Zener Diode; Manufacturer_Name: ROHM Semiconductor; Manufacturer_Part_Number: YFZVFHTR10B; Datasheet Link: http://rohmfs.rohm.com/en/products/databook/datasheet/discrete/diode/zener/yfzvfhtr10b-e.pdf; Height: 0.8mm; Mouser Part Number: 755-YFZVFHTR10B; Mouser Price/Stock: https://www.mouser.com/Search/Refine.aspx?Keyword=755-YFZVFHTR10B
footprint TDZVTR51
pins: 1 K, 2 A

## ZENER-DIODE
designator D?
ZENER Diode
footprint SOD-323
footprint SOD-123FL
pins: 1 K, 2 A